# Altium schematic symbol library TVS Diode Unidirectional 14V.SchLib: 1 symbol
Pins are listed as number, name and electrical type; pins without a type are passive.

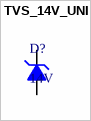
[diagram p0: symbol TVS_14V_UNI]

## TVS_14V_UNI
designator D?, comment 14V
TVS DIODE 14VWM 23.2VC SMF; Supplier 1: Digi-Key; Supplier Part Number 1: SMF14A-E3-08GICT-ND
footprint SODFL370X108-2N (SODFL, 2-Leads, Body 1.80x3.70mm, IPC Medium Density)
pins: 1 C, 2 A